# EAGLE library part IEC-BUS (library open1541)
IEC bus connector
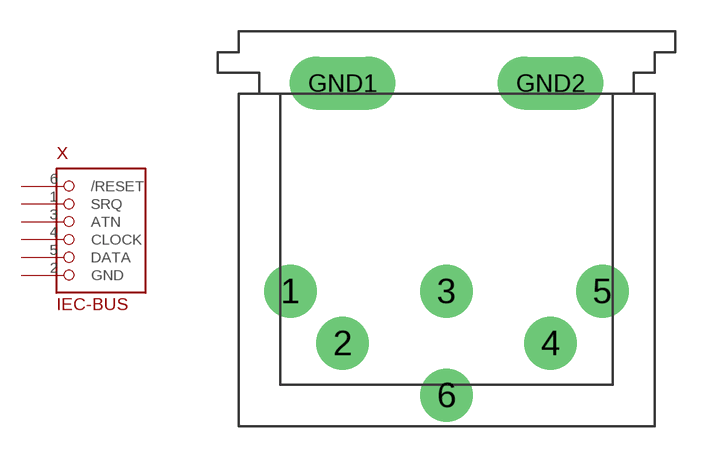
[diagram p2: symbol with the pads of DIN45322-PRINT; footprint DIN45322-PRINT]

Designator prefix X

## IEC-BUS"  [DIN45322-PRINT]
1  SRQ
2  GND  pwr
3  ATN
4  CLOCK
5  DATA
6  /RESET

## Footprint DIN45322-PRINT (pad centres in mm)
drill 1.4 pad 2.54 round: 1 -7.5,-2.5; 2 -5,-5; 3 0,-2.5; 4 5,-5; 5 7.5,-2.5; 6 0,-7.5
drill 1.4 pad 2.54 long: GND1 -5,7.5; GND2 5,7.5